# Altium footprint library ad_test2.PcbLib: 2 footprints
Each footprint in its own frame and in the unit in brackets; x right, y up, seen from the top. Pads: shape width x height; smd on the part's side, far side on the other; paste and mask are expansions set on the pad; w line width, h text height; cw(c..) or ccw(c..) is an arc to the next point about the centre after c.
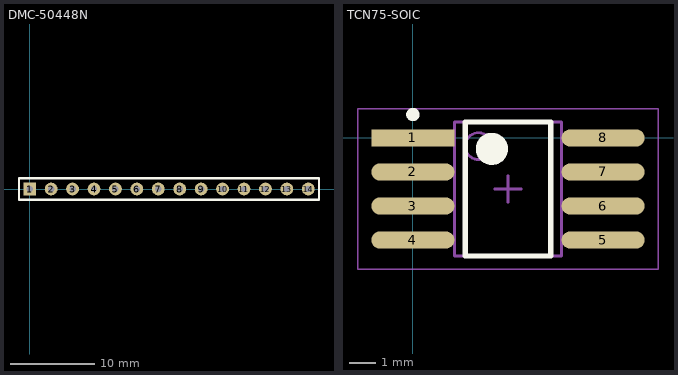
[diagram p0: the footprints below, top view; thin cyan lines are the x and y axes]

## DMC-50448N [mil] "LCD,DMC-50448N"
height 100
pads (14):
  rect 60x60 hole 30: 1(0,0)
  round 60 hole 30: 2(100,0) 3(200,0) 4(300,0) 5(400,0) 6(500,0) 7(600,0) 8(700,0) 9(800,0) 10(900,0) 11(1000,0) 12(1100,0) 13(1200,0) 14(1300,0)
Top Overlay:
  lines w10: -50,-50 -50,-40 -50,50 1350,50 1350,40 1350,-50 -50,-50
3D body: height 10, standoff 0, extent -10,50 -10,50

## TCN75-SOIC [mm] "TCN75-SOIC, 8-Leads, Body 4.90x3.90mm, Pitch 1.27mm, IPC Low Density"
height 1.75
pads (8):
  rect 3.1x0.65 smd: 1(0,0)
  oval 3.1x0.65 smd: 2(0,-1.27) 3(0,-2.54) 4(0,-3.81) 5(7.1,-3.81) 6(7.1,-2.54) 7(7.1,-1.27) 8(7.1,0)
Top Overlay:
  circle w0.6: c2.95,-0.405 r0.3
  circle w0.25: c0,0.875 r0.125
  lines w0.2: 1.95,-4.405 5.15,-4.405 5.15,0.595 1.95,0.595 1.95,-4.405
Mechanical 13:
  circle w0.1: c2.45,-0.305 r0.5
  lines w0.1: 1.55,-4.405 5.55,-4.405 5.55,0.595 1.55,0.595 1.55,-4.405
Mechanical 15:
  lines w0.05: -2.05,-4.905 9.15,-4.905 9.15,1.095 -2.05,1.095 -2.05,-4.905
  lines w0.1: 3.05,-1.905 4.05,-1.905 ; 3.55,-2.405 3.55,-1.405
3D body: height 1.75, standoff 0.1, extent 1.55,-4.405 5.55,0.595